# Altium schematic symbol library 2021-03-01_23-58-07.SchLib: 2 symbols
Pins are listed as number, name and electrical type; pins without a type are passive.

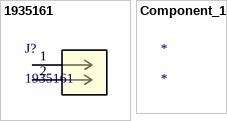
[diagram p0: symbols 1935161 to Component_1]

## 1935161
designator J?
No Description Available; SourceLibrary: Phoenix_Contact_2019-12-04; Built_By: EMA_Justin; Vendor: Phoenix Contact; Copyright: Copyright (C) 2018 Accelerated Designs. All rights reserved; Manufacturer_Part_Number: 1935161; RefDes: RefDes; Type: DEV
footprint CONN_1935161_PXC
pins: 1, 2

## Component_1
designator *